# EAGLE library part DAC7715 (library burr-brown)
DIGITAL-TO-ANALOG CONVERTER Quad, Serial Input, 12-Bit, Voltage Output
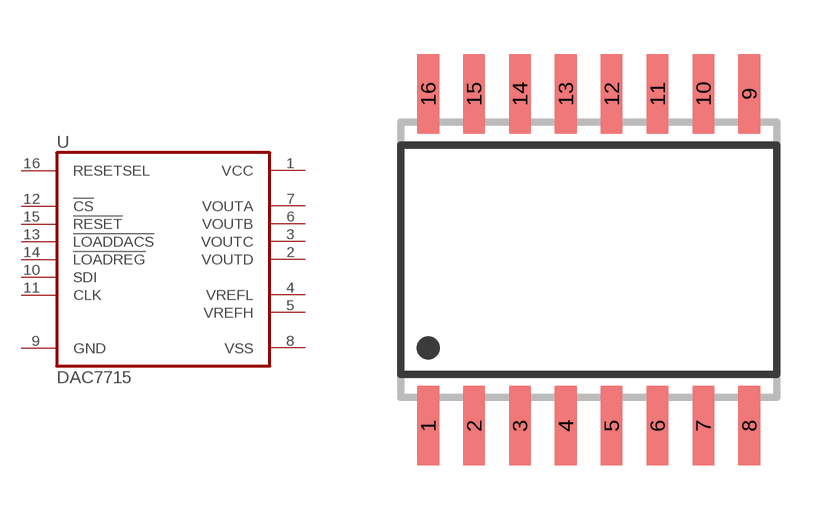
[diagram p181: symbol with the pads of SO16W; footprint SO16W]

Designator prefix U

## DAC7715  [SO16W]
1  VCC  pwr
2  VOUTD  out
3  VOUTC  out
4  VREFL  in
5  VREFH  in
6  VOUTB  out
7  VOUTA  out
8  VSS  pwr
9  GND  pwr
10  SDI  in
11  CLK  in
12  !CS!  in
13  !LOADDACS!  in
14  !LOADREG!  in
15  !RESET!  in
16  RESETSEL  in

## Footprint SO16W (pad centres in mm)
SMALL OUTLINE INTEGRATED CIRCUIT wide body 7.5 mm/JEDEC MS-013AA
smd 0.6 x 2.2: 1 -4.445,-4.6; 2 -3.175,-4.6; 3 -1.905,-4.6; 4 -0.635,-4.6; 5 0.635,-4.6; 6 1.905,-4.6; 7 3.175,-4.6; 8 4.445,-4.6; 9 4.445,4.6; 10 3.175,4.6; 11 1.905,4.6; 12 0.635,4.6; 13 -0.635,4.6; 14 -1.905,4.6; 15 -3.175,4.6; 16 -4.445,4.6